# Altium schematic symbol library 2020-05-30_00-24-19.SchLib: 19 symbols
Pins are listed as number, name and electrical type; pins without a type are passive.

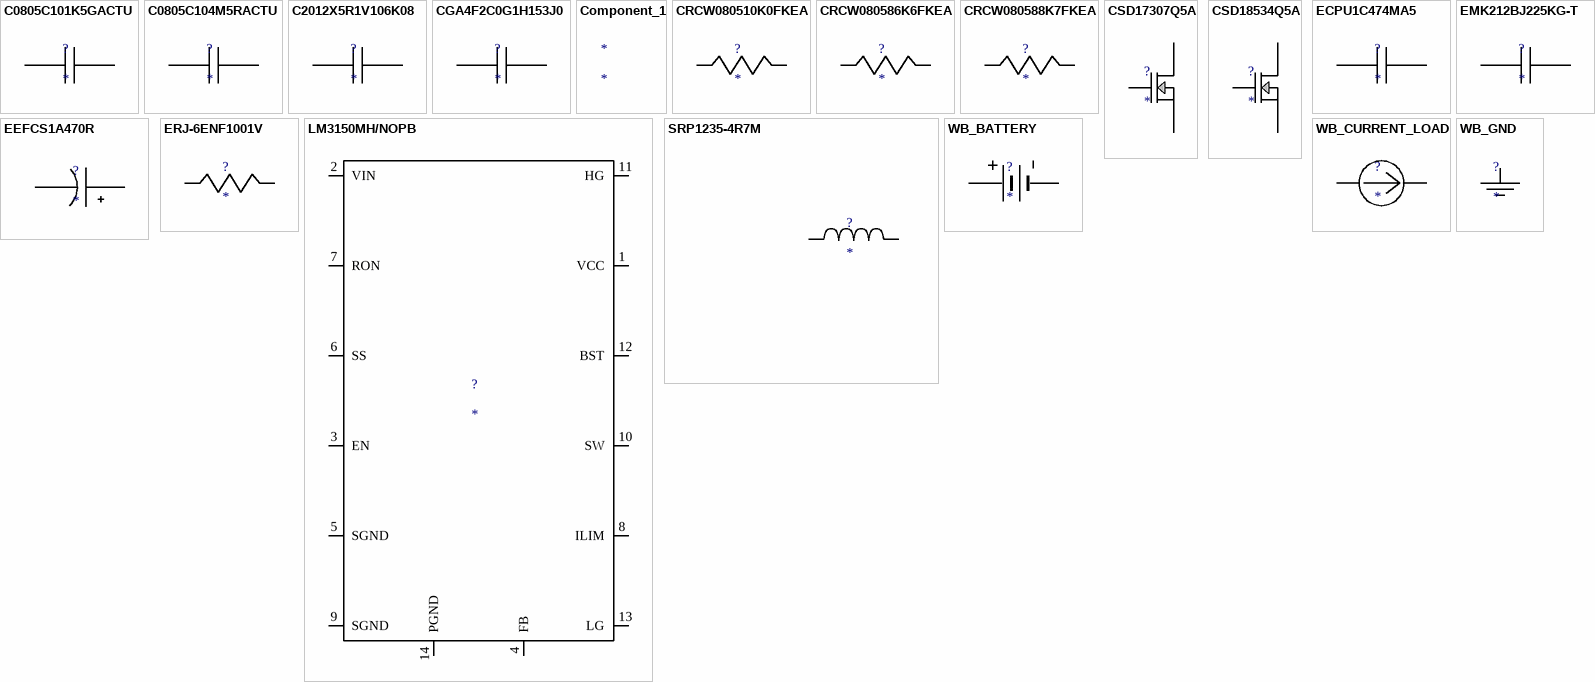
[diagram p0: symbols C0805C101K5GACTU to WB_GND]

## C0805C101K5GACTU
designator ?
Imported; Manufacturer_Part_Number: C0805C101K5GACTU; Vendor: Kemet; Manufacturer_Name: Kemet; RefDes: RefDes; TYPE: TYPE; Value: Value
footprint 0805
pins: 1, 2

## C0805C104M5RACTU
designator ?
Imported; Manufacturer_Part_Number: C0805C104M5RACTU; Vendor: Kemet; Manufacturer_Name: Kemet; RefDes: RefDes; TYPE: TYPE; Value: Value
footprint 0805
pins: 1, 2

## C2012X5R1V106K08
designator ?
Imported; Manufacturer_Part_Number: C2012X5R1V106K085AC; Vendor: TDK; Manufacturer_Name: TDK; RefDes: RefDes; TYPE: TYPE; Value: Value
footprint 0805
pins: 1, 2

## CGA4F2C0G1H153J0
designator ?
Imported; Manufacturer_Part_Number: CGA4F2C0G1H153J085AA; Vendor: TDK; Manufacturer_Name: TDK; RefDes: RefDes; TYPE: TYPE; Value: Value
footprint 0805
pins: 1, 2

## Component_1
designator *

## CRCW080510K0FKEA
designator ?
Imported; Manufacturer_Part_Number: CRCW080510K0FKEA; Vendor: Vishay-Dale; Manufacturer_Name: Vishay-Dale; RefDes: RefDes; TYPE: TYPE; Value: Value
footprint 0805
pins: 1, 2

## CRCW080586K6FKEA
designator ?
Imported; Manufacturer_Part_Number: CRCW080586K6FKEA; Vendor: Vishay-Dale; Manufacturer_Name: Vishay-Dale; RefDes: RefDes; TYPE: TYPE; Value: Value
footprint 0805
pins: 1, 2

## CRCW080588K7FKEA
designator ?
Imported; Manufacturer_Part_Number: CRCW080588K7FKEA; Vendor: Vishay-Dale; Manufacturer_Name: Vishay-Dale; RefDes: RefDes; TYPE: TYPE; Value: Value
footprint 0805
pins: 1, 2

## CSD17307Q5A
designator ?
Imported; Manufacturer_Part_Number: CSD17307Q5A; VdsMax: 30.0; IdsMax: 73.0; Rdson45: 0.0097; QgTyp: 4.0; Vendor: Texas Instruments; Datasheet_URL: http://www.ti.com/lit/ds/symlink/csd17307q5a.pdf; Quantity: 1; Manufacturer_Name: Texas Instruments; RefDes: RefDes; TYPE: TYPE; Value: Value
footprint TRANS_NexFET_Q5A
pins: 1 Source, 2 Source, 3 Source, 4 Gate, 5 Drain, 6 Drain, 7 Drain, 8 Drain, 9 Drain

## CSD18534Q5A
designator ?
Imported; Manufacturer_Part_Number: CSD18534Q5A; Vendor: Texas Instruments; Manufacturer_Name: Texas Instruments; RefDes: RefDes; TYPE: TYPE; Value: Value
footprint TRANS_NexFET_Q5A
pins: 1 Source, 2 Source, 3 Source, 4 Gate, 5 Drain, 6 Drain, 7 Drain, 8 Drain, 9 Drain

## ECPU1C474MA5
designator ?
Imported; Manufacturer_Part_Number: ECPU1C474MA5; Vendor: Panasonic; Manufacturer_Name: Panasonic; RefDes: RefDes; TYPE: TYPE; Value: Value
footprint 1206
pins: 1, 2

## EEFCS1A470R
designator ?
Imported; Manufacturer_Part_Number: EEFCS1A470R; Vendor: Panasonic; Manufacturer_Name: Panasonic; RefDes: RefDes; TYPE: TYPE; Value: Value
footprint 7343-15
pins: 1 +, 2 -

## EMK212BJ225KG-T
designator ?
Imported; Manufacturer_Part_Number: EMK212BJ225KG-T; Vendor: Taiyo Yuden; Manufacturer_Name: Taiyo Yuden; RefDes: RefDes; TYPE: TYPE; Value: Value
footprint 0805
pins: 1, 2

## ERJ-6ENF1001V
designator ?
Imported; Manufacturer_Part_Number: ERJ-6ENF1001V; Vendor: Panasonic; Manufacturer_Name: Panasonic; RefDes: RefDes; TYPE: TYPE; Value: Value
footprint 0805
pins: 1, 2

## LM3150MH/NOPB
designator ?
Imported; Manufacturer_Part_Number: LM3150MH/NOPB; Vendor: Texas Instruments; Manufacturer_Name: Texas Instruments; RefDes: RefDes; TYPE: TYPE; Value: Value
footprint MXA14A
pins: 1 VCC, 2 VIN, 3 EN, 4 FB, 5 SGND, 6 SS, 7 RON, 8 ILIM, 9 SGND, 10 SW, 11 HG, 12 BST, 13 LG, 14 PGND, 15 PGND

## SRP1235-4R7M
designator ?
Imported; Manufacturer_Part_Number: SRP1235-4R7M; Vendor: Bourns; Manufacturer_Name: Bourns; RefDes: RefDes; TYPE: TYPE; Value: Value
footprint SRP1235
pins: 1, 2

## WB_BATTERY
designator ?
Imported; Manufacturer_Part_Number: WB_BATTERY; PowerPortType: POWER_GROUND; Value: Value; Manufacturer_Name: WB_BATTERY; RefDes: RefDes; TYPE: TYPE
pins: 1 +, 2 -

## WB_CURRENT_LOAD
designator ?
Imported; Manufacturer_Part_Number: WB_CURRENT_LOAD; PowerPortType: POWER_GROUND; Value: Value; Manufacturer_Name: WB_CURRENT_LOAD; RefDes: RefDes; TYPE: TYPE
pins: 1 +, 2 -

## WB_GND
designator ?
Imported; Manufacturer_Part_Number: WB_GND; PowerPortType: POWER_GROUND; Value: Value; Manufacturer_Name: WB_GND; RefDes: RefDes; TYPE: TYPE
pins: 1